# Altium footprint library PcbLib1_2019.2.10.PcbLib: 87 footprints (part 4 of 6)
Each footprint in its own frame and in the unit in brackets; x right, y up, seen from the top. Pads: shape width x height; smd on the part's side, far side on the other; paste and mask are expansions set on the pad; w line width, h text height; cw(c..) or ccw(c..) is an arc to the next point about the centre after c.
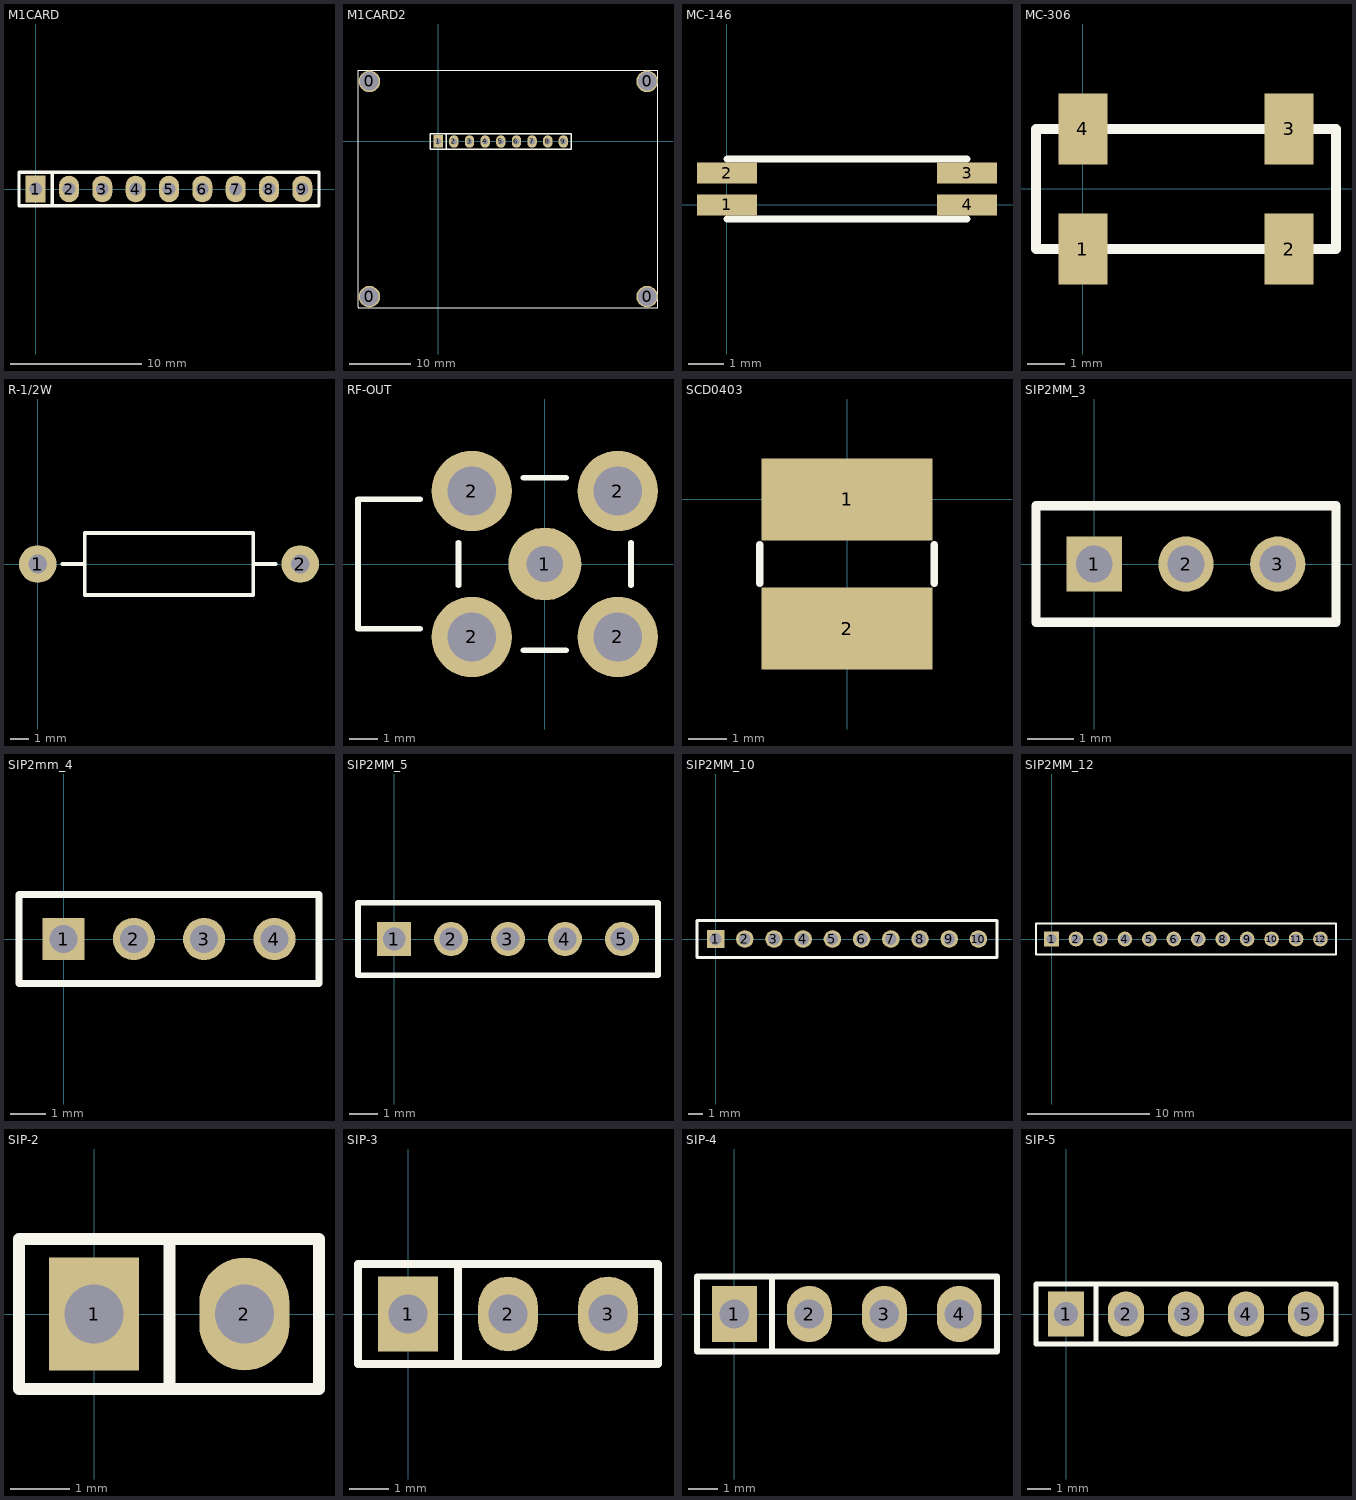
[diagram p3: the footprints below, top view; thin cyan lines are the x and y axes]

## M1CARD [mil]
pads (9):
  rect 60x80 hole 38: 1(0,0)
  oval 60x80 hole 38: 2(100,0) 3(200,0) 4(300,0) 5(400,0) 6(500,0) 7(600,0) 8(700,0) 9(800,0)
Top Overlay:
  lines w10: 50,-50 50,50 ; -50,-50 850,-50 850,50 -50,50 -50,-50

## M1CARD2 [mil]
pads (13):
  round 137.8 hole 118.11: 0(-440,-992) 0(-440,384) 0(1335.59,-992) 0(1335.59,384)
  rect 60x80 hole 38: 1(0,0)
  oval 60x80 hole 38: 2(100,0) 3(200,0) 4(300,0) 5(400,0) 6(500,0) 7(600,0) 8(700,0) 9(800,0)
Top Overlay:
  circle w10: c-440,-992 r59.05
  lines w7.87: -513,-1061.03 -512.28,-1061.75 1405,-1061.75 1405,454 -513,454 -513,-1061.03
  lines w10: 50,-50 50,50 ; -50,-50 -50,50 850,50 850,-50 -50,-50

## MC-146 [mm]
pads (4):
  rect 1.7x0.6 smd: 1(0,0) 2(0,0.9) 3(6.8,0.9) 4(6.8,0)
Top Overlay:
  lines w0.2: 0,-0.4 6.8,-0.4 ; 0,1.3 6.8,1.3

## MC-306 [mm]
pads (4):
  rect 1.3x1.9 smd: 1(0,-1.6) 2(5.5,-1.6) 3(5.5,1.6) 4(0,1.6)
Top Overlay:
  lines w0.254: -1.25,-1.6 -1.25,1.6 6.75,1.6 6.75,-1.6 -1.25,-1.6

## R-1/2W [mm]
pads (2):
  round 2 hole 1: 1(0,0) 2(14,0)
Top Overlay:
  lines w0.2: 1.3,0 2.45,0 ; 11.55,0 12.7,0 ; 2.5,-1.65 11.5,-1.65 11.5,1.65 2.5,1.65 2.5,-1.65

## RF-OUT [mm]
pads (5):
  round 2.54 hole 1.27: 1(0,0)
  round 2.8 hole 1.7: 2(-2.54,-2.54) 2(-2.54,2.54) 2(2.54,-2.54) 2(2.54,2.54)
Top Overlay:
  lines w0.2: -4.34,-2.25 -6.5,-2.25 -6.5,2.25 -4.34,2.25 ; -3,-0.74 -3,0.74 ; -0.74,-3 0.74,-3 ; -0.74,3 0.74,3 ; 3,-0.74 3,0.74

## SCD0403 [mm] "奇力新4.7uH电感"
pads (2):
  rect 4.5x2.15 smd: 1(0,0) 2(0,-3.4)
Top Overlay:
  lines w0.2: -2.3,-2.2 -2.3,-1.2 ; 2.3,-2.2 2.3,-1.2

## SIP2MM_3 [mm]
pads (3):
  rect 1.2x1.2 hole 0.8: 1(0,0)
  round 1.2 hole 0.8: 2(2,0) 3(4,0)
Top Overlay:
  lines w0.2: -1.27,-1.27 -1.27,1.27 5.27,1.27 5.27,-1.27 -1.27,-1.27

## SIP2mm_4 [mm]
pads (4):
  rect 1.2x1.2 hole 0.8: 1(0,0)
  round 1.2 hole 0.8: 2(2,0) 3(4,0) 4(6,0)
Top Overlay:
  lines w0.2: -1.27,-1.27 7.27,-1.27 7.27,1.27 -1.27,1.27 -1.27,-1.27

## SIP2MM_5 [mm]
pads (5):
  rect 1.2x1.2 hole 0.8: 1(0,0)
  round 1.2 hole 0.8: 2(2,0) 3(4,0) 4(6,0) 5(8,0)
Top Overlay:
  lines w0.2: -1.27,-1.27 9.27,-1.27 9.27,1.27 -1.27,1.27 -1.27,-1.27

## SIP2MM_10 [mm]
pads (10):
  rect 1.2x1.2 hole 0.8: 1(0,0)
  round 1.2 hole 0.8: 2(2,0) 3(4,0) 4(6,0) 5(8,0) 6(10,0) 7(12,0) 8(14,0) 9(16,0) 10(18,0)
Top Overlay:
  lines w0.2: -1.27,-1.27 -1.27,1.27 12.73,1.27 19.27,1.27 19.27,-1.27 12.73,-1.27 -1.27,-1.27

## SIP2MM_12 [mm]
pads (12):
  rect 1.2x1.2 hole 0.8: 1(0,0)
  round 1.2 hole 0.8: 2(2,0) 3(4,0) 4(6,0) 5(8,0) 6(10,0) 7(12,0) 8(14,0) 9(16,0) 10(18,0) 11(20,0) 12(22,0)
Top Overlay:
  lines w0.2: -1.27,-1.27 12.73,-1.27 23.27,-1.27 23.27,1.27 12.73,1.27 -1.27,1.27 -1.27,-1.27

## SIP-2 [mm]
pads (2):
  rect 1.524x1.905 hole 1: 1(0,0)
  oval 1.524x1.905 hole 1: 2(2.54,0)
Top Overlay:
  lines w0.203: 1.27,-1.27 1.27,1.27 ; -1.27,-1.27 -1.27,1.27 3.8,1.27 3.8,-1.27 -1.27,-1.27

## SIP-3 [mm]
pads (3):
  rect 1.524x1.905 hole 1: 1(0,0)
  oval 1.524x1.905 hole 1: 2(2.54,0) 3(5.08,0)
Top Overlay:
  lines w0.203: 1.27,-1.27 1.27,1.27 ; -1.27,-1.27 -1.27,1.27 6.35,1.27 6.35,-1.27 -1.27,-1.27

## SIP-4 [mm]
pads (4):
  rect 1.524x1.905 hole 1: 1(0,0)
  oval 1.524x1.905 hole 1: 2(2.54,0) 3(5.08,0) 4(7.62,0)
Top Overlay:
  lines w0.203: 1.27,-1.27 1.27,1.27 ; -1.27,-1.27 8.9,-1.27 8.9,1.27 -1.27,1.27 -1.27,-1.27

## SIP-5 [mm]
pads (5):
  rect 1.524x1.905 hole 1: 1(0,0)
  oval 1.524x1.905 hole 1: 2(2.54,0) 3(5.08,0) 4(7.62,0) 5(10.16,0)
Top Overlay:
  lines w0.203: 1.27,-1.27 1.27,1.27 ; 11.4,-1.27 -1.27,-1.27 -1.27,1.27 11.43,1.27 11.43,-1.27